# Altium footprint library CC2650RC_4MOD1106_rev1_6.PcbLib: 33 footprints (part 2 of 3)
Each footprint in its own frame and in the unit in brackets; x right, y up, seen from the top. Pads: shape width x height; smd on the part's side, far side on the other; paste and mask are expansions set on the pad; w line width, h text height; cw(c..) or ccw(c..) is an arc to the next point about the centre after c.
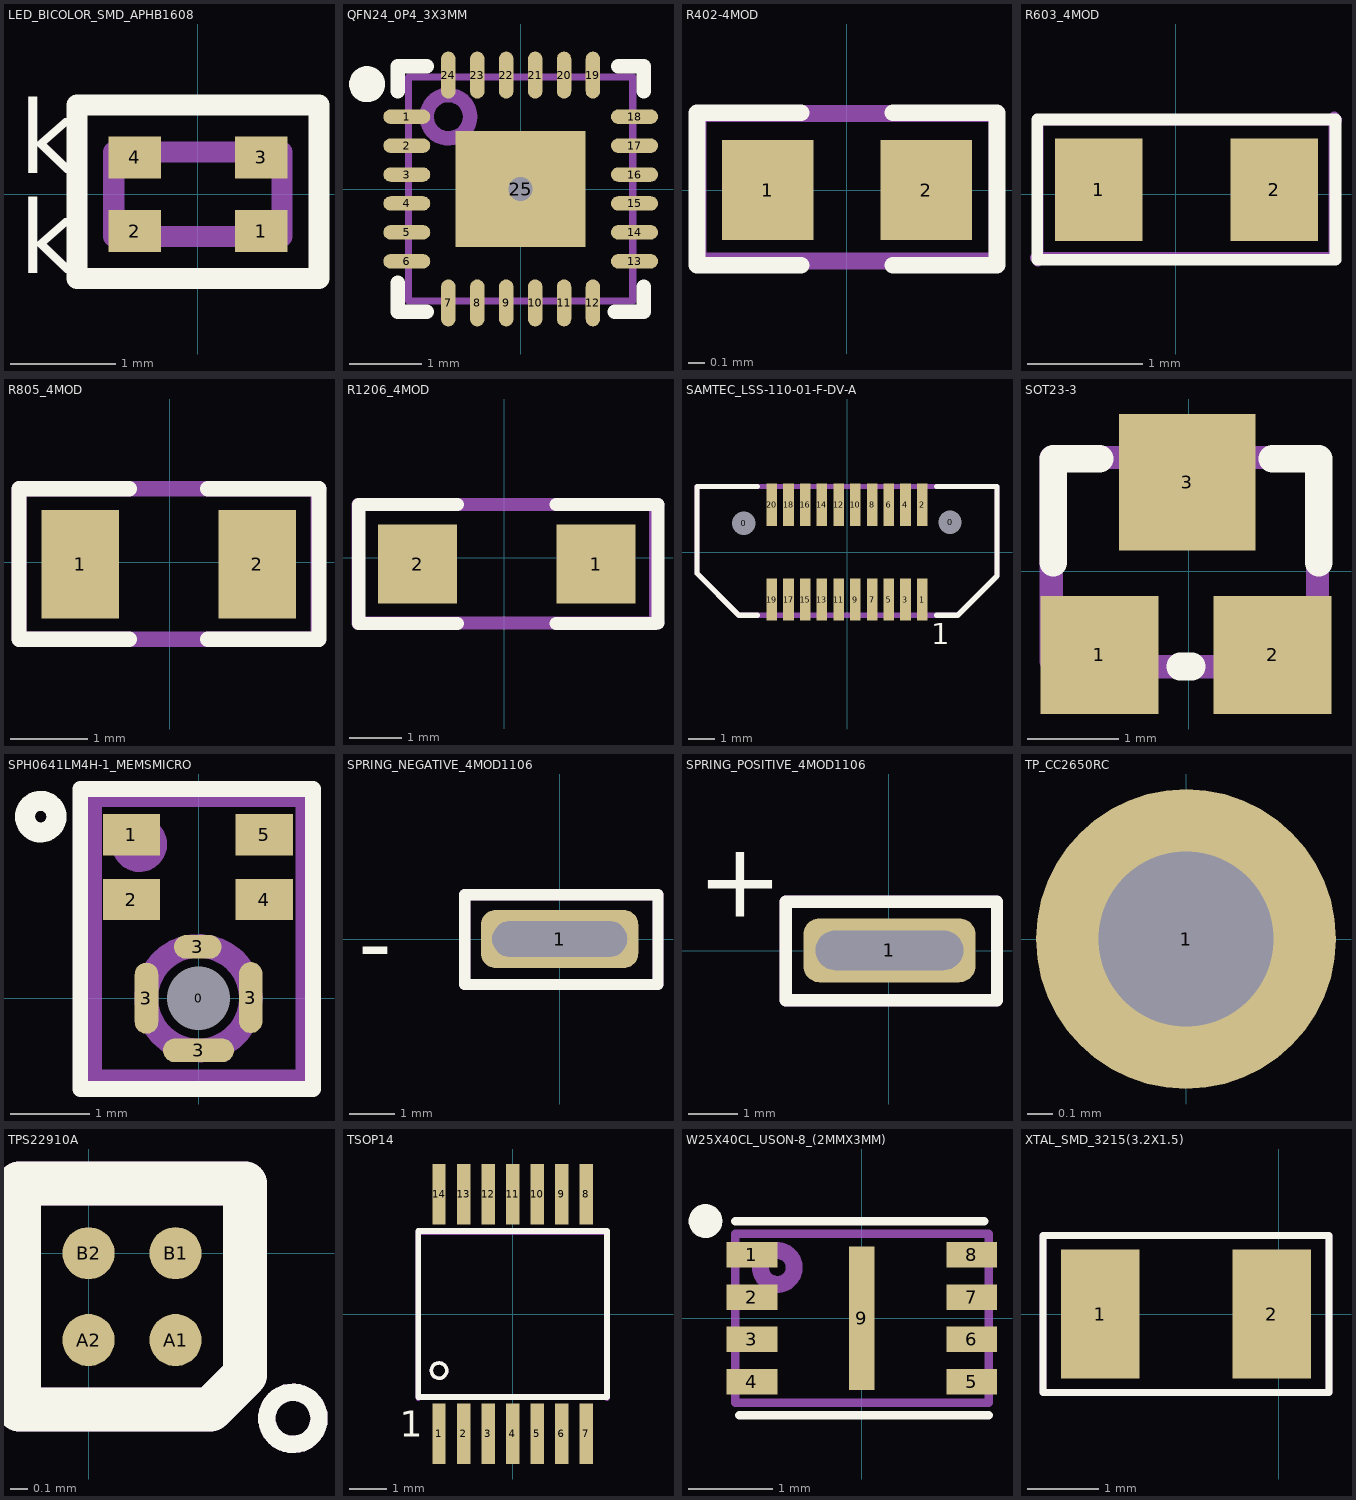
[diagram p1: the footprints below, top view; thin cyan lines are the x and y axes]

## LED_BICOLOR_SMD_APHB1608 [mm]
pads (4):
  rect 0.5x0.4 smd: 1(0.6,-0.35) 2(-0.6,-0.35) 3(0.6,0.35) 4(-0.6,0.35)
Top Overlay:
  lines w0.2: -1.15,-0.8 1.15,-0.8 1.15,0.85 -1.15,0.85 -1.15,-0.8
  text "k" at -1.7,0.2 h0.7
  text "k" at -1.7,-0.75 h0.7
Mechanical 16:
  lines w0.2: -0.8,-0.4 0.8,-0.4 0.8,0.4 -0.8,0.4 -0.8,-0.4
Mechanical 27:
  text ".Designator" at 2.252,-0.969 h0.8
  text "k" at -1.45,0.075 h0.7
  text "k" at -1.45,-0.775 h0.7
3D body: height 0.52, standoff 0.02, extent -0.8,-0.4 0.8,0.4
3D body: height 0.53, standoff 0.52, extent 0.15,0.05 0.4,0.3
3D body: height 0.53, standoff 0.52, extent -0.4,-0.3 -0.15,-0.05

## QFN24_0P4_3X3MM [mm]
pads (25):
  oval 0.65x0.2 smd: 1(-1.575,1) 2(-1.575,0.6) 3(-1.575,0.2) 4(-1.575,-0.2) 5(-1.575,-0.6) 6(-1.575,-1) 13(1.575,-1) 14(1.575,-0.6) 15(1.575,-0.2) 16(1.575,0.2) 17(1.575,0.6) 18(1.575,1)
  oval 0.2x0.65 smd: 7(-1,-1.575) 8(-0.6,-1.575) 9(-0.2,-1.575) 10(0.2,-1.575) 11(0.6,-1.575) 12(1,-1.575) 19(1,1.575) 20(0.6,1.575) 21(0.2,1.575) 22(-0.2,1.575) 23(-0.6,1.575) 24(-1,1.575)
  rect 1.8x1.6 smd: 25(0,0)
via 0,0 diameter 0.66 hole 0.33
Top Overlay:
  circle w0.25: c-2.125,1.45 r0.125
  lines w0.2: -1.7,-1.3 -1.7,-1.5 ; -1.7,1.35 -1.7,1.7 -1.3,1.7 ; -1.3,-1.7 -1.7,-1.7 -1.7,-1.5 ; 1.3,-1.7 1.7,-1.7 1.7,-1.35 ; 1.35,1.7 1.7,1.7 1.7,1.35 ; -1.7,-1.5 -1.7,-1.5
Mechanical 16:
  circle w0.2: c-1,1 r0.3
  lines w0.1: -1.55,-1.55 1.55,-1.55 1.55,1.55 -1.55,1.55 -1.55,-1.55
Mechanical 27:
  text ".Designator" at -0.581,-0.687 h0.8
3D body: height 1.05, standoff 0, extent -1.5,-1.5 1.5,1.5
3D body: height 1.06, standoff 1.01, extent -1.298,0.701 -0.7,1.299

## R402-4MOD [mil]
height 19.68
pads (2):
  rect 22x24 smd: 1(-19,0) 2(19,0)
Top Overlay:
  lines w4: -11,-18 -36,-18 -36,18.59 -11,18.59 ; 11,-18 36,-18 36,18.59 11,18.59
Mechanical 16:
  lines w4: -35.71,17.87 -35.71,-16.98 35.95,-16.98 35.95,18.43 -35.71,18.43
Mechanical 27:
  text ".Designator" at -30.79,-5.76 h19.68
3D body "User Library-0402(1005M) Res.step": height 20.1, standoff 0, extent -19.88,-9.85 20.12,10.15

## R603_4MOD [mil]
height 19.68
pads (2):
  rect 30x35 smd: 1(-26.39,1.65) 2(33.61,1.65)
Top Overlay:
  lines w4: -47.39,-22.35 54.61,-22.35 54.61,25.65 -47.39,25.65 -47.39,-22.35
Mechanical 16:
  lines w4: -47.87,-21.65 54.13,-21.65 54.13,26.35 ; -47.24,-22.64 -47.24,25.36 ; -47.24,25.59 54.76,25.59
Mechanical 27:
  text ".Designator" at -21.14,-9.59 h19.68
3D body "User Library-0603(1608M) Res.step": height 31.1, standoff 0, extent -37.4,-14.51 41.35,16.49

## R805_4MOD [mm]
pads (2):
  rect 1x1.4 smd: 1(-1.16,-0.03) 2(1.126,-0.03)
Top Overlay:
  lines w0.2: -0.525,-1 -1.95,-1 -1.95,0.95 -0.525,0.95 ; 0.491,-1 1.925,-1 1.925,0.95 0.491,0.95
Mechanical 16:
  lines w0.2: 1.915,0.95 1.915,-1 -1.95,-1 -1.95,0.95 1.925,0.95
3D body "User Library-RES_2013-0805.SLDPRT": height 0.76, standoff 0, extent -1.15,-0.675 1.15,0.675

## R1206_4MOD [mil]
height 39.37
pads (2):
  rect 60x60 smd: 1(69.25,-4.68) 2(-65.75,-4.68)
Top Overlay:
  lines w10: -35.75,-49.69 -110.24,-49.69 -110.24,40.31 -35.75,40.31 ; 39.25,-49.69 114.25,-49.69 ; 39.25,40.31 114.25,40.31 ; 116.14,-49.21 116.14,40.35 ; 116.14,40.35 116.14,40.35
Mechanical 16:
  lines w10: -110.75,-49.69 -110.75,40.31 ; -109.25,-49.21 116.14,-49.21 ; -109.25,40.35 116.14,40.35 ; 114.25,-49.69 114.25,40.31
Mechanical 27:
  text ".Designator" at -98.43,-23.62 h60
3D body "User Library-res1206-1.step": height 21.65, standoff 0, extent -61.24,-36.19 64.74,26.81

## SAMTEC_LSS-110-01-F-DV-A [mm]
pads (22):
  round 0.4 hole 0.89 unplated: 0(-3.925,1.1) 0(3.915,1.135)
  rect 0.4x1.6 smd: 1(2.857,-1.803) 2(2.857,1.803) 3(2.222,-1.803) 4(2.222,1.803) 5(1.587,-1.803) 6(1.587,1.803) 7(0.953,-1.803) 8(0.953,1.803) 9(0.318,-1.803) 10(0.318,1.803) 11(-0.318,-1.803) 12(-0.318,1.803) 13(-0.953,-1.803) 14(-0.953,1.803) 15(-1.587,-1.803) 16(-1.587,1.803) 17(-2.222,-1.803) 18(-2.222,1.803) 19(-2.857,-1.803) 20(-2.857,1.803)
Top Overlay:
  lines w0.2: -3.4,-2.4 -4.1,-2.4 -5.7,-0.8 -5.7,2.5 -3.4,2.5 ; 3.4,-2.4 4.2,-2.4 ; 3.4,2.5 5.7,2.5 5.7,-0.9 4.2,-2.4 ; 5.5,-1.1 4.2,-2.4
  text "1" at 3.2,-3.5 h0.8
Mechanical 16:
  lines w0.2: -5.7,-0.8 -5.7,2.5 5.7,2.5 5.7,-0.9 4.2,-2.4 -4.1,-2.4 -5.7,-0.8
Mechanical 27:
  text "1" at 3.5,-2.1 h0.8
  text ".Designator" at -3.6,-0.4 h0.9
3D body "Samtec-LSS-110-01-F-DV-A.step": height 4.5, standoff -0.8, extent -5.55,-2.27 5.55,2.33

## SOT23-3 [mm] "SOT23-3"
height 0.8
pads (3):
  rect 1.3x1.3 smd: 1(-0.98,-0.92) 2(0.925,-0.92)
  rect 1.5x1.5 smd: 3(-0.015,0.98)
Top Overlay:
  lines w0.305: -1.488,0.096 -1.488,1.239 -0.98,1.239 ; -0.091,-1.047 0.036,-1.047 ; 0.925,1.239 1.433,1.239 1.433,0.096
Mechanical 16:
  lines w0.254: -1.51,-0.99 -1.51,1.25 1.42,1.25 1.42,-1.04 1.41,-1.05 -1.45,-1.05 -1.51,-0.99
Mechanical 27:
  text ".Designator" at 0.692,0.492 h0.8
3D body "User Library-3-lead sot23-3.step": height 1, standoff -0.02, extent -1.45,-1.23 1.47,1.246

## SPH0641LM4H-1_MEMSMICRO [mm]
pads (9):
  round 0.2 hole 0.8 unplated: 0(0,0)
  rect 0.725x0.522 smd: 1(-0.85,2.07) 2(-0.85,1.25) 4(0.83,1.25) 5(0.83,2.07)
  oval 0.3x0.9 smd: 3(-0.66,0) 3(0.66,0.008)
  oval 0.6x0.3 smd: 3(-0.01,0.65)
  oval 0.9x0.3 smd: 3(0,-0.66)
Top Overlay:
  circle w0.254: c-2,2.3 r0.2
  lines w0.2: -1.5,-1.15 1.45,-1.15 1.45,2.65 -1.5,2.65 -1.5,-1.15
Mechanical 2:
  circle w0.3: c0,0 r0.663
Mechanical 16:
  circle w0.3: c-0.75,1.95 r0.2
  circle w0.1: c-0.002,0 r0.162
  lines w0.1: -0.225,0.008 0.25,0.008 ; 0,-0.275 0,0.2
  lines w0.2: -1.325,2.5 -1.325,-1 1.325,-1 1.325,2.5 ; -1.325,2.525 1.325,2.525
Mechanical 27:
  text ".Designator" at 1.012,0.894 h0.8
3D body: height 0.09, standoff -0.01, extent -0.161,-0.162 0.163,0.162
3D body: height 0.29, standoff 0.02, extent -1.3,-1 1.3,2.5
3D body: height 0.69, standoff 0.29, extent -1.1,-0.8 1.1,2.3

## SPRING_NEGATIVE_4MOD1106 [mm]
pads (1):
  rrect50% 3.5x1.3 hole 0.8 slot 3 at 0 deg: 1(0,0)
Top Overlay:
  lines w0.254: -2.113,-1.013 -2.113,0.987 2.187,0.987 2.187,-1.013 -2.113,-1.013
  text "-" at -4.489,-0.828 h1.52
Mechanical 2:
  lines w0.127: -1.49,0.021 cw(c-1.09,0.021) -1.09,0.421 1.11,0.421 cw(c1.11,0.021) 1.51,0.021 cw(c1.11,0.021) 1.11,-0.379 -1.09,-0.379 cw(c-1.09,0.021) -1.49,0.021
Mechanical 16:
  lines w0.254: -2.113,-1.013 -2.113,0.987 2.187,0.987 2.187,-1.013 -2.113,-1.013
Mechanical 27:
  text ".Designator" at -1.444,-0.288 h0.8
  text "-" at -4.429,-0.888 h1.52

## SPRING_POSITIVE_4MOD1106 [mm]
pads (1):
  rrect50% 3.5x1.3 hole 0.8 slot 3 at 0 deg: 1(0.013,0.013)
Top Overlay:
  lines w0.254: -2.1,-1 2.2,-1 2.2,1 -2.1,1 -2.1,-1
  text "+" at -3.9,0.7 h1.52
Mechanical 2:
  lines w0.127: -1.477,0.033 ccw(c-1.077,0.033) -1.077,-0.367 1.123,-0.367 ccw(c1.123,0.033) 1.523,0.033 ccw(c1.123,0.033) 1.123,0.433 -1.077,0.433 ccw(c-1.077,0.033) -1.477,0.033
Mechanical 16:
  lines w0.254: -2.1,-1 2.2,-1 2.2,1 -2.1,1 -2.1,-1
Mechanical 27:
  text ".Designator" at -1.244,-0.488 h0.8
  text "+" at -3.9,0.7 h1.52

## TP_CC2650RC [mm]
pads (1):
  round 1.2 hole 0.7: 1(0,0)

## TPS22910A [mm] ".5V 2A 61mOhm Active Low Load Switch with Reverse Current Protection"
pads (4):
  round 0.3 smd: A1(0.5,-0.5) A2(0,-0.5) B1(0.5,0) B2(0,0)
Top Overlay:
  circle w0.1: c1.175,-0.95 r0.15
  lines w0.254: -0.4,-0.9 -0.4,0.4 0.9,0.4 0.9,-0.7 0.7,-0.9 -0.4,-0.9
Mechanical 16:
  circle w0.1: c1.175,-0.95 r0.15
  lines w0.254: -0.4,0.4 0.9,0.4 ; -0.4,0.4 -0.4,-0.9 0.7,-0.9 0.9,-0.7 0.9,0.4 ; -0.4,0.4 0.9,0.4
Mechanical 27:
  text ".Designator" at -0.337,-1.819 h0.7
3D body: height 0.51, standoff 0.01, extent -0.2,-0.7 0.7,0.2
3D body: height 0.52, standoff 0.4, extent 0.3,-0.599 0.599,-0.3

## TSOP14 [mm]
pads (14):
  rect 0.35x1.6 smd: 1(-1.95,-3.175) 2(-1.3,-3.175) 3(-0.65,-3.175) 4(0,-3.175) 5(0.65,-3.175) 6(1.3,-3.175) 7(1.95,-3.175) 8(1.95,3.175) 9(1.3,3.175) 10(0.65,3.175) 11(0,3.175) 12(-0.65,3.175) 13(-1.3,3.175) 14(-1.95,3.175)
Top Overlay:
  circle w0.093: c-1.953,-1.5 r0.203
  lines w0.15: -2.5,-2.2 2.5,-2.2 2.5,2.2 -2.5,2.2 -2.5,-2.2
  text "1" at -3,-3.25 h0.7
Mechanical 16:
  circle w0.093: c-1.953,-1.5 r0.203
  lines w0.15: -2.5,-2.225 -2.5,2.175 2.5,2.175 2.5,-2.225 ; -2.5,-2.2 2.5,-2.2
Mechanical 27:
  text "1" at -3,-3.25 h0.7
  text ".Designator" at -0.975,-0.8 h1
3D body "User Library-tssop14-2.step": height 1.2, standoff 0, extent -2.55,-3.175 2.55,3.225

## W25X40CL_USON-8_(2MMX3MM) [mm]
pads (9):
  rect 0.6x0.3 smd: 1(-1.3,0.75) 2(-1.3,0.25) 3(-1.3,-0.25) 4(-1.3,-0.75) 5(1.3,-0.75) 6(1.3,-0.25) 7(1.3,0.25) 8(1.3,0.75)
  rect 0.3x1.7 smd: 9(0,0)
Top Overlay:
  circle w0.2: c-1.85,1.15 r0.1
  lines w0.1: -1.5,1.15 1.45,1.15 ; -1.45,-1.15 1.5,-1.15
Mechanical 16:
  circle w0.2: c-1,0.6 r0.2
  lines w0.1: -1.5,-1 1.5,-1 1.5,1 -1.5,1 -1.5,-1
Mechanical 27:
  text ".Designator" at -0.681,-0.637 h0.8
3D body "User Library_USON-8_(2x3x0.6mm)_0P5.step": height 0.6, standoff 0, extent -1.51,-1 1.51,1

## XTAL_SMD_3215(3.2X1.5) [mm] "crystal SMD case 3215 ( 3.2 mm * 1.5 mm)"
height 0.8
pads (2):
  rect 1.1x1.8 smd: 1(-2.5,0) 2(-0.1,0)
Top Overlay:
  lines w0.1: -3.3,-1.1 -3.3,1.1 0.7,1.1 0.7,-1.1 -3.3,-1.1
Mechanical 16:
  lines w0.1: -3.3,-1.1 0.7,-1.1 0.7,1.1 -3.3,1.1 -3.3,-1.1
Mechanical 27:
  text ".Designator" at -2.8,-0.7 h0.9
3D body "User Library-NX3215SA.step": height 0.78, standoff 0, extent -2.782,-0.764 0.232,0.75